# EAGLE library part SGP30 (library SGP30)
Sensirion SGP30 Multi-pixel gas sensor by Sensirion MPN: SGP30-2.5K Datasheet <https://www.sensirion.com/fileadmin/user_upload/customers/sensirion/Dokumente/9_Gas_Sensors/Sensirion_Gas_Sensors_SGP30_Datasheet_EN.pdf>
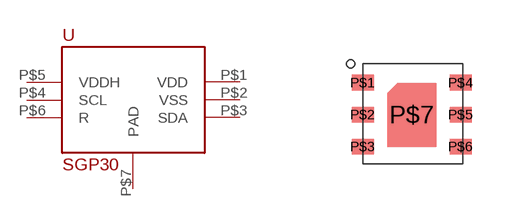
[diagram p0: symbol with the pads of DFN; footprint DFN]

Designator prefix -

## SGP30  [DFN]
P$1  VDD
P$2  VSS
P$3  SDA
P$4  SCL
P$5  VDDH
P$6  R
P$7  PAD

## Footprint DFN (pad centres in mm)
smd 0.55 x 0.4: P$1 0,2.025; P$2 0,1.225; P$3 0,0.425; P$4 2.45,2.025; P$5 2.45,1.225; P$6 2.45,0.425
smd 1 x 1: P$7 1.225,1.225